# EAGLE library part ?M20B-SRSS-TB (library jack_connector)
Disconnectable Crimp style connector, 1.0mm pitch 20 contacts
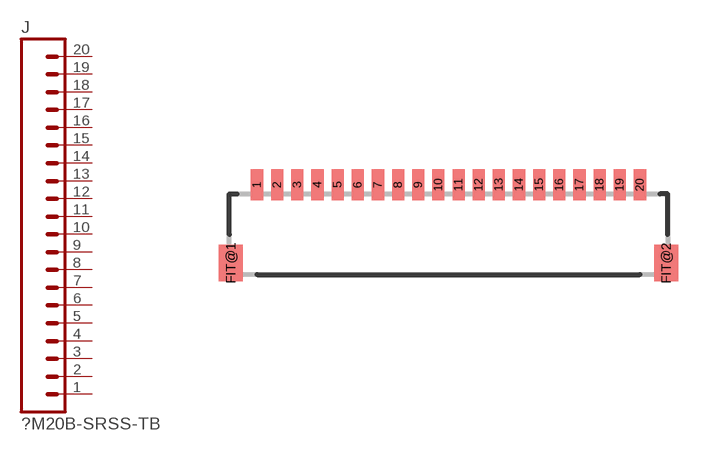
[diagram p15: symbol with the pads of SM20B-SRSS-TB; footprint SM20B-SRSS-TB]

Designator prefix J

## SM20B-SRSS-TB  [SM20B-SRSS-TB]
1  1  pas
2  2  pas
3  3  pas
4  4  pas
5  5  pas
6  6  pas
7  7  pas
8  8  pas
9  9  pas
10  10  pas
11  11  pas
12  12  pas
13  13  pas
14  14  pas
15  15  pas
16  16  pas
17  17  pas
18  18  pas
19  19  pas
20  20  pas

## Footprint SM20B-SRSS-TB (pad centres in mm)
Shrouded Header, side entry type https://www.digikey.com/product-detail/en/jst-sales-america-inc/SM20B-SRSS-TB-LF-SN/455-1816-1-ND/926887
smd 0.6 x 1.55: 1 -9.5,2.975; 2 -8.5,2.975; 3 -7.5,2.975; 4 -6.5,2.975; 5 -5.5,2.975; 6 -4.5,2.975; 7 -3.5,2.975; 8 -2.5,2.975; 9 -1.5,2.975; 10 -0.5,2.975; 11 0.5,2.975; 12 1.5,2.975; 13 2.5,2.975; 14 3.5,2.975; 15 4.5,2.975; 16 5.5,2.975; 17 6.5,2.975; 18 7.5,2.975; 19 8.5,2.975; 20 9.5,2.975
smd 1.2 x 1.8: FIT@1 -10.8,-0.9; FIT@2 10.8,-0.9